# Altium schematic symbol library DF40HC_4.0_-40DS-0.4V_70_.SchLib: 1 symbol
Pins are listed as number, name and electrical type; pins without a type are passive.

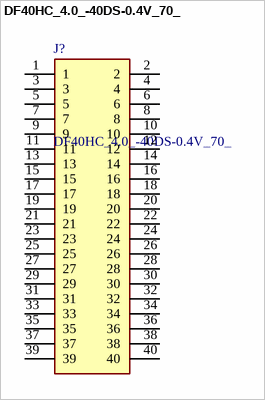
[diagram p0: symbol DF40HC_4.0_-40DS-0.4V_70_]

## DF40HC_4.0_-40DS-0.4V_70_
designator J?
Board to Board & Mezzanine Connectors 40P 2 ROW RECEPTACLE 4MM HGHT .4MM PITCH; Manufacturer_Name: Hirose; Manufacturer_Part_Number: DF40HC(4.0)-40DS-0.4V(70); Geometry.Height: 4.05mm; Mouser Part Number: 798-DF4HC4040DS04V70; Mouser Price/Stock: https://www.mouser.co.uk/ProductDetail/Hirose-Connector/DF40HC4.0-40DS-0.4V70?qs=tTj%252BmQ3KZwaQlTwElzYEIw%3D%3D; Datasheet Link: https://datasheet.datasheetarchive.com/originals/distributors/SFDatasheet-7/sf-000141247.pdf
footprint DF40HC4040DS04V70
pins: 1, 2, 3, 4, 5, 6, 7, 8, 9, 10, 11, 12, 13, 14, 15, 16, 17, 18, 19, 20, 21, 22, 23, 24, 25, 26, 27, 28, 29, 30, 31, 32, 33, 34, 35, 36, 37, 38, 39, 40